# EAGLE library part OPA1632DGNR (library OPA1632DGNR)
Fully Differential I/O Audio Amplifier Source: Datasheet <http://www.ti.com/lit/gpn/OPA1632>
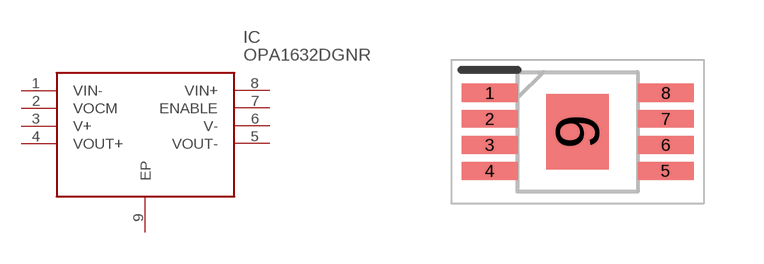
[diagram p0: symbol with the pads of SOP65P490X110-9N; footprint SOP65P490X110-9N]

Designator prefix IC

## OPA1632DGNR (Description: Fully Differential I/O Audio Amplifier; Height: 1.1mm; Manufacturer_Name: Texas Instruments; Manufacturer_Part_Number: OPA1632DGNR; Mouser_Part_Number: 595-OPA1632DGNR; Mouser_Price-Stock: https://www.mouser.co.uk/ProductDetail/Texas-Instruments/OPA1632DGNR?qs=7nS3%252BbEUL6t46Xk02kKOHg%3D%3D)  [SOP65P490X110-9N]
1  VIN-
2  VOCM
3  V+
4  VOUT+
5  VOUT-
6  V-
7  ENABLE
8  VIN+
9  EP

## Footprint SOP65P490X110-9N (pad centres in mm)
OPA1632DGNR
smd 1.4 x 0.45: 1 -2.2,0.975; 2 -2.2,0.325; 3 -2.2,-0.325; 4 -2.2,-0.975; 5 2.2,-0.975; 6 2.2,-0.325; 7 2.2,0.325; 8 2.2,0.975
smd 1.57 x 1.89: 9 0,0